# Altium footprint library ThruHole_Passive.PcbLib: 1 footprints
Each footprint in its own frame and in the unit in brackets; x right, y up, seen from the top. Pads: shape width x height; smd on the part's side, far side on the other; paste and mask are expansions set on the pad; w line width, h text height; cw(c..) or ccw(c..) is an arc to the next point about the centre after c.
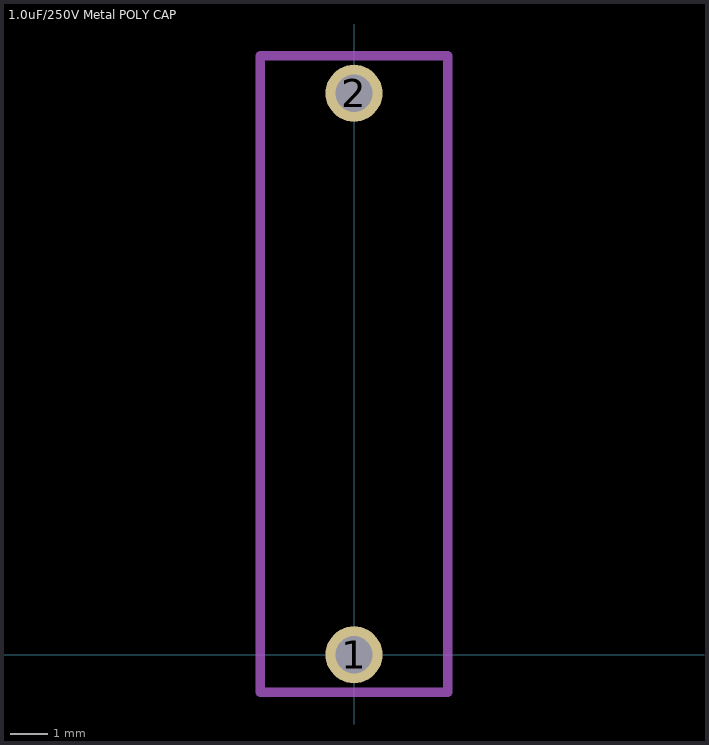
[diagram p0: the footprint, top view; thin cyan lines are the x and y axes]

## 1.0uF/250V Metal POLY CAP [mil]
pads (2):
  round 60 hole 39.37: 1(0,0) 2(0,590.55)
Mechanical 13:
  lines w10: -98.43,629.92 -98.42,-39.37 98.43,-39.37 98.43,629.92 -98.43,629.92
3D body: height 492.13, standoff 0, extent -98.43,-39.37 98.43,629.92